# EAGLE library part TEENSY31DEV (library custom)
TEENSY 3.1 uC headers
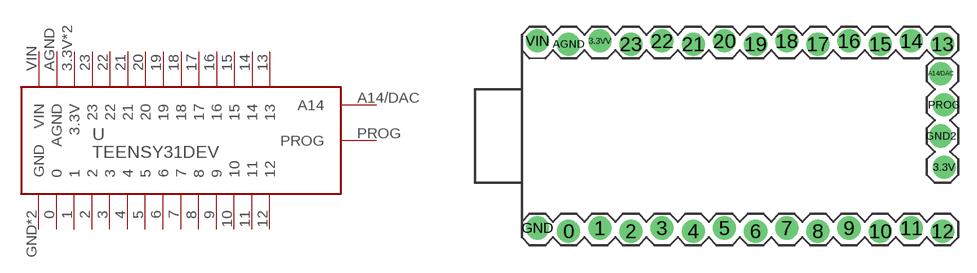
[diagram p0: symbol with the pads of TEENSY31PAC; footprint TEENSY31PAC]

Designator prefix -

## TEENSY31DEV  [TEENSY31PAC]
0  0
1  1
2  2
3  3
3.3V  3.3V  sup
3.3VV  3.3V  sup
4  4
5  5
6  6
7  7
8  8
9  9
10  10
11  11
12  12
13  13
14  14
15  15
16  16
17  17
18  18
19  19
20  20
21  21
22  22
23  23
A14/DAC  A14
AGND  AGND  pwr
GND  GND  pwr
GND2  GND  pwr
PROG  PROG
VIN  VIN  pwr

## Footprint TEENSY31PAC (pad centres in mm)
drill 1.016 pad 1.88: 0 -13.97,-6.477; 1 -11.43,-6.223; 2 -8.89,-6.477; 3 -6.35,-6.223; 3.3V 16.637,-1.27; 3.3VV -11.43,9.017; 4 -3.81,-6.477; 5 -1.27,-6.223; 6 1.27,-6.477; 7 3.81,-6.223; 8 6.35,-6.477; 9 8.89,-6.223; 10 11.43,-6.477; 11 13.97,-6.223; 12 16.51,-6.477; 13 16.51,8.763; 14 13.97,9.017; 15 11.43,8.763; 16 8.89,9.017; 17 6.35,8.763; 18 3.81,9.017; 19 1.27,8.763; 20 -1.27,9.017; 21 -3.81,8.763; 22 -6.35,9.017; 23 -8.89,8.763; A14/DAC 16.383,6.35; AGND -13.97,8.763; GND -16.51,-6.223; GND2 16.383,1.27; PROG 16.637,3.81; VIN -16.51,9.017